# Altium schematic symbol library Libreria esquematico.SchLib: 95 symbols
Pins are listed as number, name and electrical type; pins without a type are passive.

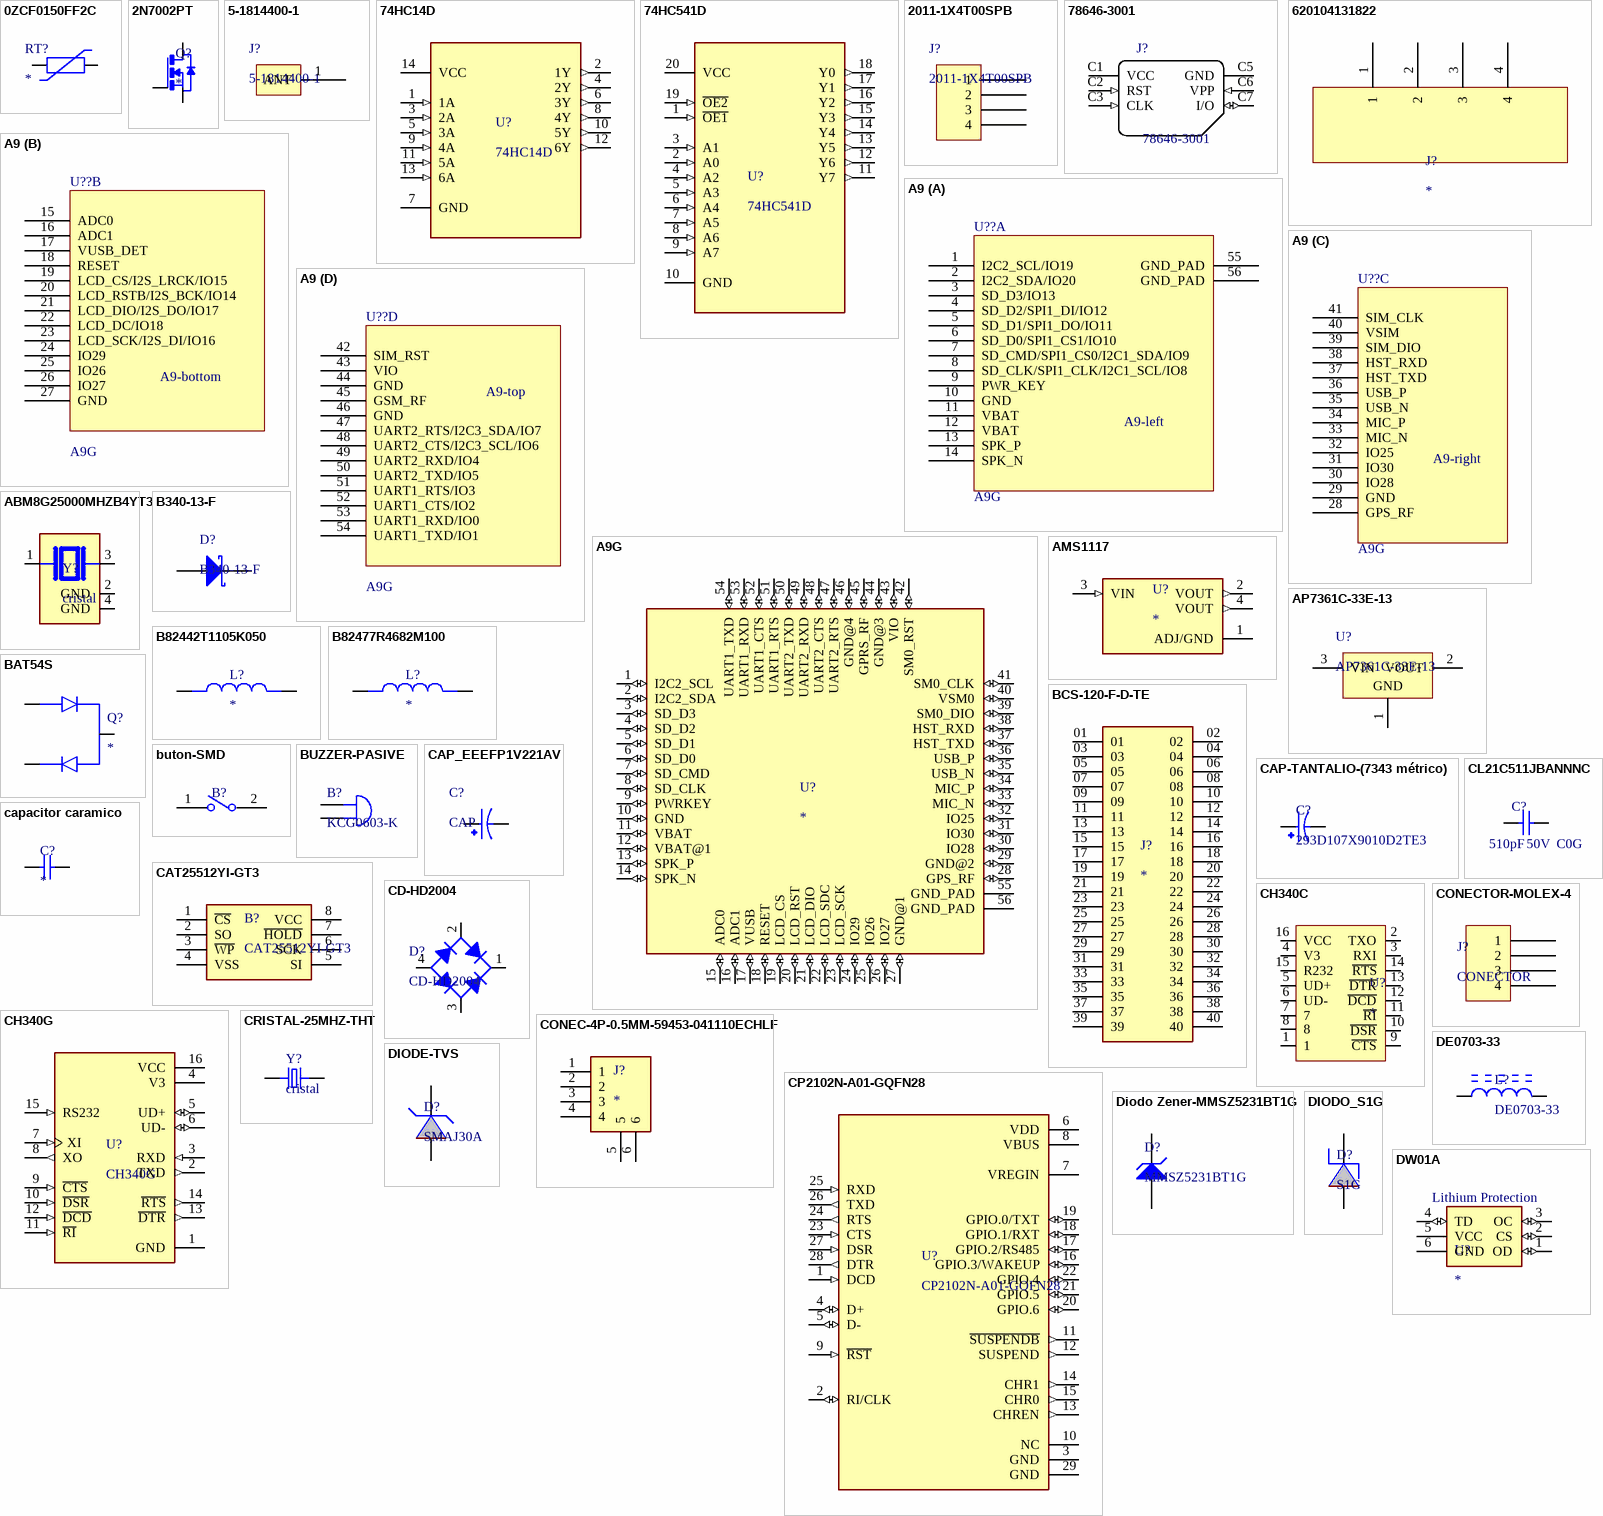
[diagram p0: symbols 0ZCF0150FF2C to DW01A]

## 0ZCF0150FF2C
designator RT?
PPTC (Polyswitch); Manufacturer_Part_Number: 0ZCF0150FF2C; Vendor: Belfuse; Type: Type; RefDes: RefDes
footprint 0ZCF
pins: 1, 2

## 2N7002PT
designator Q?
N-Channel 60 V 310mA (Ta) 250mW (Ta) Surface Mount SC-75; MP: 2N7002PT; package: SOT-416 NXP USA Inc.
footprint SOT-416
pins: 1 D, 2 G, 3 S

## 5-1814400-1
designator J?
SMA Connector Jack, Female Socket 50 Ohm Through Hole, Right Angle Solder; Vendor: Tyco Electronics; Manufacturer_Part_Number: 5-1814400-1
footprint 5-1814400-1
pins: 1 ANT

## 74HC14D
designator U?
Inverter IC 6 Channel Schmitt Trigger 14-SOIC; MF: Toshiba; MP: 74HC14D
footprint SOIC127P600X175-14N
pins: 1 1A (in), 2 1Y (out), 3 2A (in), 4 2Y (out), 5 3A (in), 6 3Y (out), 7 GND, 8 4Y (out), 9 4A (in), 10 5Y (out), 11 5A (in), 12 6Y (out), 13 6A (in), 14 VCC (power)

## 74HC541D
designator U?
Buffer, Non-Inverting 1 Element 8 Bit per Element 3-State Output 20-SOIC; MF: Toshiba Semiconductor; MP: 74HC541D
footprint HRS_U.FL-R-SMT(01)
pins: 1 ~{OE1} (in), 2 A0 (in), 3 A1 (in), 4 A2 (in), 5 A3 (in), 6 A4 (in), 7 A5 (in), 8 A6 (in), 9 A7 (in), 10 GND, 11 Y7 (out), 12 Y6 (out), 13 Y5 (out), 14 Y4 (out), 15 Y3 (out), 16 Y2 (out), 17 Y1 (out), 18 Y0 (out), 19 ~{OE2} (in), 20 VCC (power)

## 2011-1X4T00SPB
designator J?
Header 0.1" 4 pos
footprint VREG_LM2596S-12/NOPB
pins: 1, 2, 3, 4

## 78646-3001
designator J?
Conn Micro SIM Card SKT 6 POS 2.54mm Solder RA SMD 0.5A/Contact Embossed T/R; MF: Molex; Price: 0.58 USD; Availability: Good; MP: 78646-3001; Package: None; Value: *
footprint MICRO-SIM_CARD_HOLDER_78646-3001(Primary)
pins: C1 VCC (power), C2 RST (in), C3 CLK (in), C5 GND (power), C6 VPP (in), C7 I/O (io)

## 620104131822
designator J?
Connector Header Surface Mount, Right Angle 4 position 0.079" (2.00mm); MP: WurthElektronik
footprint 620104131822
pins: 1, 2, 3, 4

## A9
designator U??, comment A9G
Cellular, Navigation Beidou, GNSS, GPRS, GPS, GSM Transceiver Module 800MHz, 900MHz, 1.8GHz, 1.9GHz Antenna Not Included Surface Mount; Model Name: A9G; Package: SMD54; Size: 19.2*18.8*2.7(±0.2)mm
part A pins: 1 I2C2_SCL/IO19, 2 I2C2_SDA/IO20, 3 SD_D3/IO13, 4 SD_D2/SPI1_DI/IO12, 5 SD_D1/SPI1_DO/IO11, 6 SD_D0/SPI1_CS1/IO10, 7 SD_CMD/SPI1_CS0/I2C1_SDA/IO9, 8 SD_CLK/SPI1_CLK/I2C1_SCL/IO8, 9 PWR_KEY, 10 GND, 11 VBAT, 12 VBAT, 13 SPK_P, 14 SPK_N, 55 GND_PAD, 56 GND_PAD
part B pins: 15 ADC0, 16 ADC1, 17 VUSB_DET, 18 RESET, 19 LCD_CS/I2S_LRCK/IO15, 20 LCD_RSTB/I2S_BCK/IO14, 21 LCD_DIO/I2S_DO/IO17, 22 LCD_DC/IO18, 23 LCD_SCK/I2S_DI/IO16, 24 IO29, 25 IO26, 26 IO27, 27 GND
part C pins: 28 GPS_RF, 29 GND, 30 IO28, 31 IO30, 32 IO25, 33 MIC_N, 34 MIC_P, 35 USB_N, 36 USB_P, 37 HST_TXD, 38 HST_RXD, 39 SIM_DIO, 40 VSIM, 41 SIM_CLK
part D pins: 42 SIM_RST, 43 VIO, 44 GND, 45 GSM_RF, 46 GND, 47 UART2_RTS/I2C3_SDA/IO7, 48 UART2_CTS/I2C3_SCL/IO6, 49 UART2_RXD/IO4, 50 UART2_TXD/IO5, 51 UART1_RTS/IO3, 52 UART1_CTS/IO2, 53 UART1_RXD/IO0, 54 UART1_TXD/IO1
part A text: A9-left
part B text: A9-bottom
part C text: A9-right
part D text: A9-top

## A9G
designator U?
Cellular, Navigation Beidou, GNSS, GPRS, GPS, GSM Transceiver Module 800MHz, 900MHz, 1.8GHz, 1.9GHz Antenna Not Included Surface Mount; MF: KEMET; MP: A9G
footprint A9
pins: 1 I2C2_SCL (io), 2 I2C2_SDA (io), 3 SD_D3 (io), 4 SD_D2 (io), 5 SD_D1 (io), 6 SD_D0 (io), 7 SD_CMD (io), 8 SD_CLK (io), 9 PWRKEY (io), 10 GND (io), 11 VBAT (io), 12 VBAT@1 (io), 13 SPK_P (io), 14 SPK_N (io), 15 ADC0 (io), 16 ADC1 (io), 17 VUSB (io), 18 RESET (io), 19 LCD_CS (io), 20 LCD_RST (io), 21 LCD_DIO (io), 22 LCD_SDC (io), 23 LCD_SCK (io), 24 IO29 (io), 25 IO26 (io), 26 IO27 (io), 27 GND@1 (io), 28 GPS_RF (io), 29 GND@2 (io), 30 IO28 (io), 31 IO30 (io), 32 IO25 (io), 33 MIC_N (io), 34 MIC_P (io), 35 USB_N (io), 36 USB_P (io), 37 HST_TXD (io), 38 HST_RXD (io), 39 SM0_DIO (io), 40 VSM0 (io), 41 SM0_CLK (io), 42 SM0_RST (io), 43 VIO (io), 44 GND@3 (io), 45 GPRS_RF (io), 46 GND@4 (io), 47 UART2_RTS (io), 48 UART2_CTS (io), 49 UART2_RXD (io), 50 UART2_TXD (io), 51 UART1_RTS (io), 52 UART1_CTS (io), 53 UART1_RXD (io), 54 UART1_TXD (io), 55 GND_PAD, 56 GND_PAD

## ABM8G25000MHZB4YT3
designator Y?, comment cristal
CRISTAL, SELLO DE VIDRIO CERAMICO, 25.000MHZ, 10PF, 30PPM @ 25C, 3; MF: Abracon; MP: ABM8G25000MHZB4YT3
footprint XTAL_ABM8G25000MHZB4YT3
pins: 1, 2 GND (power), 3 2, 4 GND (power)

## AMS1117
designator U?
1A LOW DROPOUT VOLTAGE REGULATOR SOT-223; MP: AMS1117; MF: SOT-223
footprint SOT229P700X180-4N
pins: 1 ADJ/GND (power), 2 VOUT (out), 3 VIN (in), 4 VOUT (out)

## AP7361C-33E-13
designator U?
Linear Voltage Regulator IC Positive Fixed 1 Output 3.3V 1A SOT-223; Voltage Dropout (Max): 0.36V @ 1A (Typ); PackageReference: SOT-223
footprint SOT-223_M (SOT223, 4-Leads, Body 6.5x3.5mm, Pitch 2.3mm, Lead Span 7mm, IPC Low Density)
pins: 1 GND (power), 2 VOUT (power), 3 VIN (power)

## B340-13-F
designator D?
Diode Schottky 40V 3A Surface Mount SMC
footprint B340 (Molded Diode, 2-Leads, Body 4.60x2.92mm)
pins: 1 A, 2 K

## B82442T1105K050
designator L?
INDUCTOR, 2220A, 1000UH, 0.246A, 10%; Inductance:1mH; Inductance Tolerance:Â± 10%; DC Resistance Max:9.5ohm; DC Current Rating:150mA; Series:SIMID; Core Material:Ferrite; Inductor Case Style:2220; No. of Pins:2; Core Material:Ferrite; DC Current Max:150mA; Inductor Type:Laser Cut; Package / Case:2220; Q @ Vr F:20; Q Factor @ Frequency:20 @ 252kHz; Resistance:9.5ohm; Resonant Frequency:1.8MHz
footprint INDM5650X530N
pins: 1, 2

## B82477R4682M100
designator L?
INDUCTOR, POWER, 6.8UH, 10.5A, 20%; Product Range:EPCOS - B82477R4 Series; Inductance:6.8µH; Inductance Tolerance:± 20%; Inductor
footprint IND_B82477R4682M100
pins: 1, 2

## BAT54S
designator Q?
SOT-23 30V 0.2A Diodes Rectifi
footprint SOT95P240X120-3N
pins: 1, 2, 3

## BCS-120-F-D-TE
designator J?
CONNECTOR, RECEPTACLE, 40 CONTACTS, 2 ROWS, THROUGH HOLE, 2.54 MM; Connector Systems:Board-to-Board; Pitch Spacing:2.54mm; No. of Rows:2Rows; No. of Contacts:40Contacts; Connector Mounting:Through Hole Mount; Gender:Receptacle RoHS Compliant: Yes
footprint SAMTEC_BCS-120-F-D-TE
pins: 01, 02, 03, 04, 05, 06, 07, 08, 09, 10, 11, 12, 13, 14, 15, 16, 17, 18, 19, 20, 21, 22, 23, 24, 25, 26, 27, 28, 29, 30, 31, 32, 33, 34, 35, 36, 37, 38, 39, 40

## buton-SMD
designator B?  (value not drawn)
buton-SMD
footprint SW_147873-2
pins: 1, 2

## BUZZER-PASIVE
designator B?, comment KCG0603-K
Magnetic Transducer Passive Buzzer [Kingstate], Pin Type, Dimensions(mm): 6.60*3.50, Voltage: 2.0~5.0, Max current consumption(mA): Max. 80, Coil resistance(Ω): 16.0±3.0, SPL(dB): Min. 75dB(Typical 80)@10cm, Frequency(KHz): 3.00.
footprint KCG1206-DSF
pins: 1, 2

## CAP-TANTALIO-(7343 métrico)
designator C?, comment 293D107X9010D2TE3
Capacitores de tantalio moldeado de 100 µF 10 V 2917 (7343 métrico) 600 mOhm; marca: Vishay Sprague
footprint CAP-TANTALIO-PM7343X310N (Capacitores de tantalio moldeado de 100 µF 10 V 2917 (7343 métrico) 600 mOhm)
pins: 1, 2

## CAP_EEEFP1V221AV
designator C?, comment CAP
CAP ALUM; max volt: 50V
footprint CAP_EEEFP1V221AV - duplicate
pins: 1, 2

## capacitor caramico
designator C?
capacitor ceramico 0805
footprint C_0805-3D (Chip Capacitor, 2-Leads, Body 2.00x1.25mm)
pins: 1, 2

## CAT25512YI-GT3
designator B?
EEPROM 512KB SPI SER CMOS EEPROM
footprint SOP65P640X120-8N
pins: 1 ~{CS}, 2 SO, 3 ~{WP}, 4 VSS, 5 SI, 6 SCK, 7 ~{HOLD}, 8 VCC

## CD-HD2004
designator D?
Bridge Rectifier Single Phase Schottky 40V Surface Mount; Maximum Average Forward Rectified Current: 2A; Maximum Repetitive Peak Reverse Voltage: 40V
footprint CD-HD2004
pins: 1 K, 2 C1, 3 C2, 4 A

## CH340C
designator U?
CH340C USB/UART; MF: Olimex; MP: CH340C
footprint SO016
pins: 1 (io), 2 TXO (io), 3 RXI (io), 4 V3 (io), 5 UD+ (io), 6 UD- (io), 7, 8, 9 ~{CTS} (io), 10 ~{DSR} (io), 11 ~{RI} (io), 12 ~{DCD} (io), 13 ~{DTR} (io), 14 ~{RTS} (io), 15 R232 (io), 16 VCC (io)

## CH340G
designator U?
USB Interface Integrated Circuit; MF: WCH; MP: CH340G
footprint SOIC127P600X180-16N
pins: 1 GND (power), 2 TXD (out), 3 RXD (in), 4 V3 (power), 5 UD+ (io), 6 UD- (io), 7 XI (in), 8 XO (out), 9 ~{CTS} (in), 10 ~{DSR} (in), 11 ~{RI} (in), 12 ~{DCD} (in), 13 ~{DTR} (out), 14 ~{RTS} (out), 15 RS232 (in), 16 VCC (power)

## CL21C511JBANNNC
designator C?  value 510pF  Voltage Rating DC: 50V  Temperature Coefficient: C0G
Capacitor
footprint C_0805_3D (Chip capacitor)
pins: 1, 2

## CONEC-4P-0.5MM-59453-041110ECHLF
designator J?
0.50mm Flex Connectors, FPC/FFC Side Entry ZIF Connector, Surface Mount, 4 Positions, Bottom Contact, 0.50mm (0.020in) Pitch
footprint AMPHENOL_59453-041110ECHLF
pins: 1, 2, 3, 4, 5, 6

## CONECTOR-MOLEX-4
designator J?, comment CONECTOR
CONECTOR MOLEX 4 0.5mm pitch
footprint Pin-Header-MOLEX-4 (2.54 mm pitch male header pin)
pins: 1, 2, 3, 4

## CP2102N-A01-GQFN28
designator U?
USB Bridge, USB to UART USB 2.0 UART Interface 28-QFN (5x5)
footprint QFN-28 (CP2102N-A01-GQFN28)
pins: 1 DCD (in), 2 RI/CLK (io), 3 GND (power), 4 D+ (io), 5 D- (io), 6 VDD (power), 7 VREGIN (power), 8 VBUS (power), 9 ~{RST} (in), 10 NC, 11 ~{SUSPENDB} (out), 12 SUSPEND (out), 13 CHREN (out), 14 CHR1 (out), 15 CHR0 (out), 16 GPIO.3/WAKEUP (io), 17 GPIO.2/RS485 (io), 18 GPIO.1/RXT (io), 19 GPIO.0/TXT (io), 20 GPIO.6 (io), 21 GPIO.5 (io), 22 GPIO.4 (io), 23 CTS (in), 24 RTS (out), 25 RXD (in), 26 TXD (out), 27 DSR (in), 28 DTR (out), 29 GND (power)

## CRISTAL-25MHZ-THT
designator Y?, comment cristal
25 MHz Â±30ppm Cristal 18pF 30 ohmios HC-49/US
footprint XTAL_ECS-250-18-4X-F
pins: 1, 2

## DE0703-33
designator L?
Inductor: alambre; SMD; 33uH; 910mA; 240 mΩ; 7,3x7,3x3,2 mm; ±20%
footprint DE0703-33 (Inductor: alambre; SMD; 33uH; 910mA; 240 mO; 7,3x7,3x3,2 mm; ±20%)
pins: 1, 2

## DIODE-TVS
designator D?, comment SMAJ30A
diodo TVS Unidirectional TVS
footprint D_SMA
pins: 1 A, 2 K

## Diodo Zener-MMSZ5231BT1G
designator D?, comment MMSZ5231BT1G
Diodo Zener 5,1 V 500 mW ±5 % Montaje en superficie SOD-123
footprint SOD_123
pins: 1, 2

## DIODO_S1G
designator D?, comment S1G
Rectificador de recuperación estándar, 1 A, 400 V
footprint DO214AC
pins: 1 A, 2 K

## DW01A
designator U?
One Cell Lithium-ion/Polymer Battery Protection IC
footprint SOT-23-6 (Pinza 11,4V 7A (8/20µs) Ipp Tvs Diodo Montaje en superficie)
pins: 1 OD (io), 2 CS (io), 3 OC (io), 4 TD (io), 5 VCC (power), 6 GND (power)
text: Lithium Protection

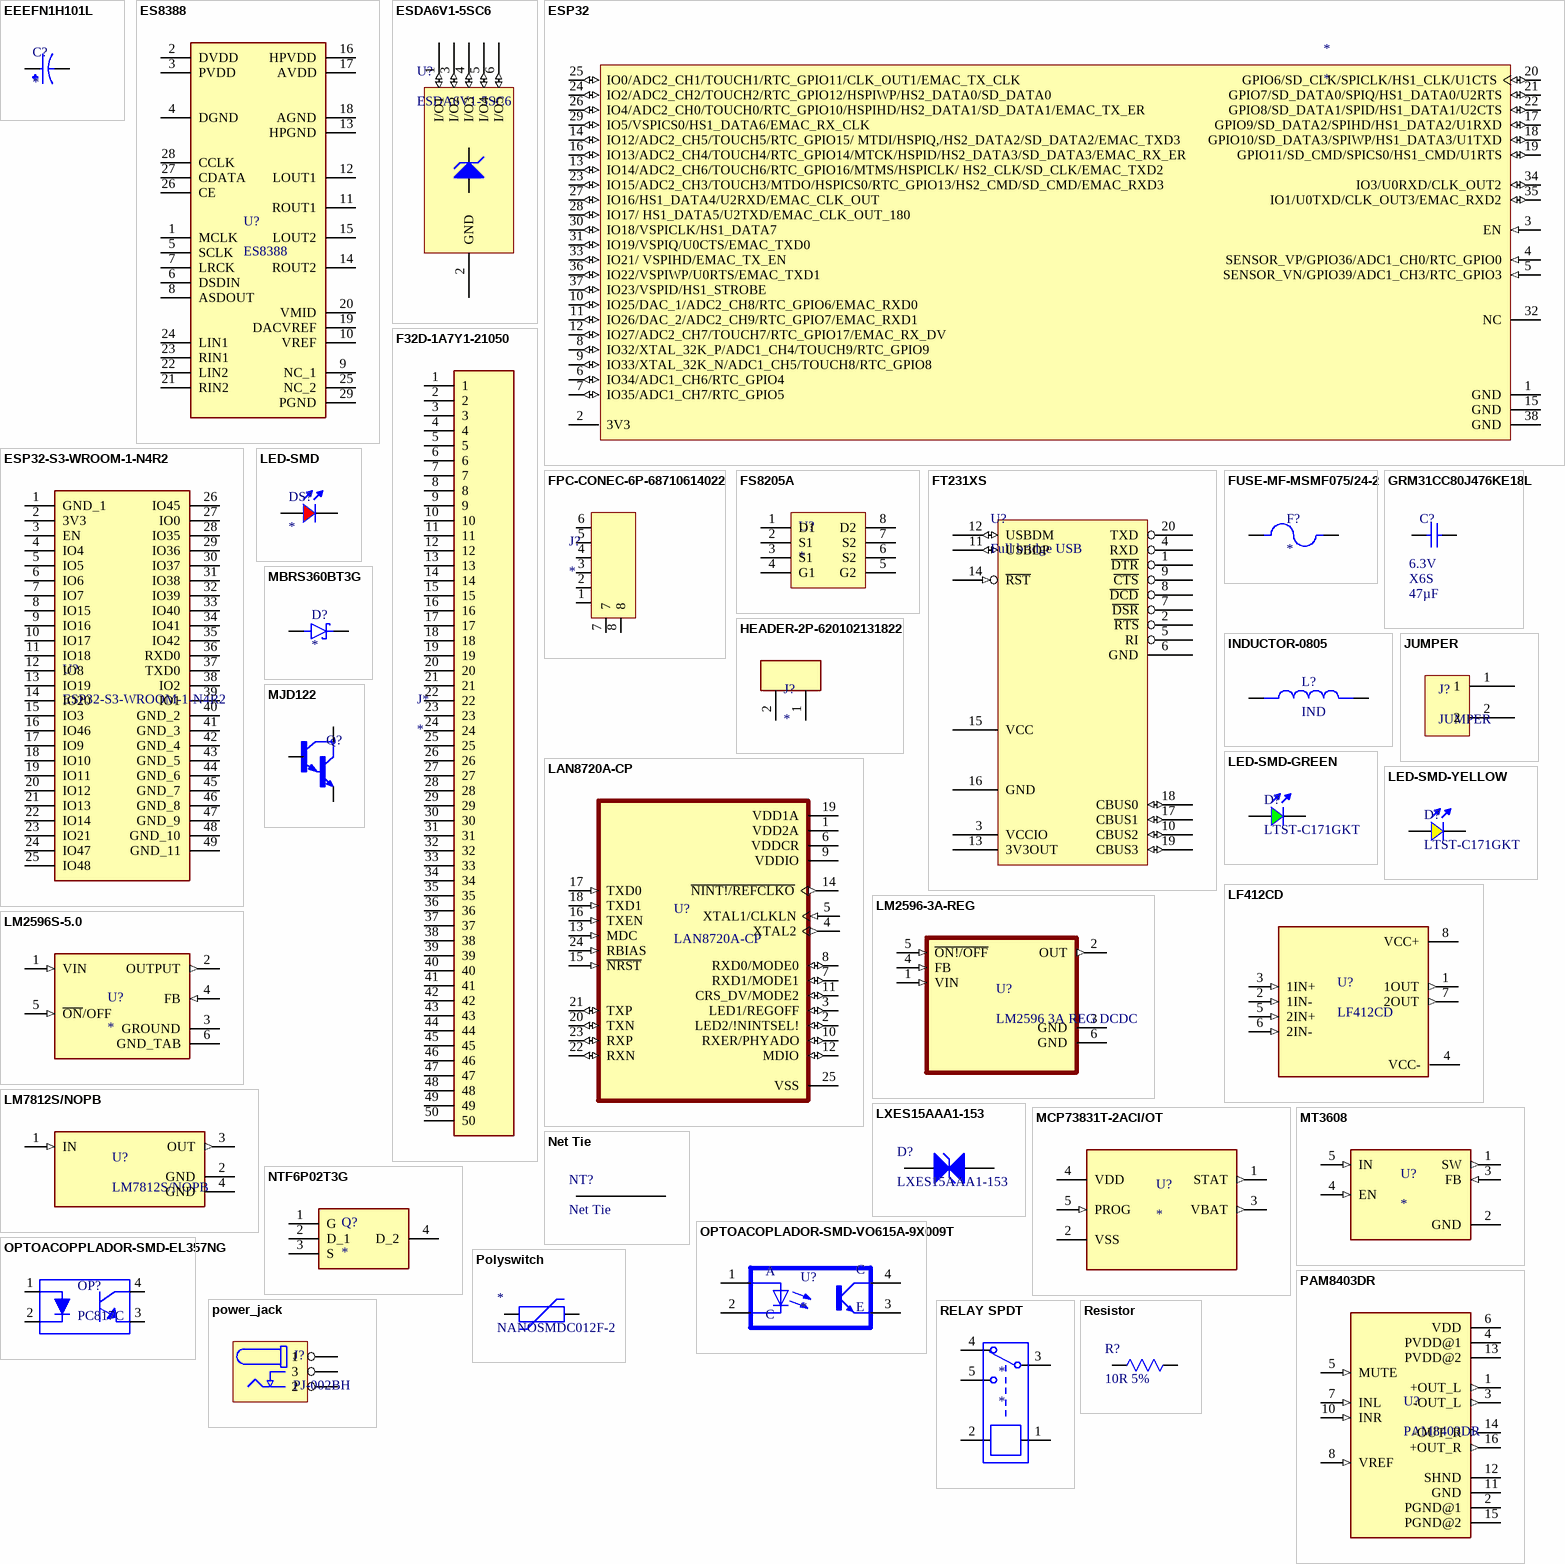
[diagram p1: symbols EEEFN1H101L to Resistor]

## EEEFN1H101L
designator C?
CAP ALUM 100UF 20% 50V SMD; MP: EEE-FN1H101L; MF: Panasonic Electronic Components; Value: *; SnapEDA_Link: https://www.snapeda.com/parts/EEE-FN1H101L/Panasonic/view-part/6178263/?ref=snap; Availability: In Stock; Package: RADIAL-2 Panasonic; Purchase-URL: https://pricing.snapeda.com/search/part/EEE-FN1H101L/?ref=eda; Price: None; Check_prices: https://www.snapeda.com/parts/EEE-FN1H101L/Panasonic/view-part/6178263/?ref=eda
footprint CAP_EEEFN1H101L
pins: 1, 2

## ES8388
designator U?
Low Power Stereo Audio CODEC With Headphone Amplifier; MP: Everest; MF: ES8388
footprint QFN45P400X400X90-29N-D
pins: 1 MCLK, 2 DVDD, 3 PVDD, 4 DGND, 5 SCLK, 6 DSDIN, 7 LRCK, 8 ASDOUT, 9 NC_1, 10 VREF, 11 ROUT1, 12 LOUT1, 13 HPGND, 14 ROUT2, 15 LOUT2, 16 HPVDD, 17 AVDD, 18 AGND, 19 DACVREF, 20 VMID, 21 RIN2, 22 LIN2, 23 RIN1, 24 LIN1, 25 NC_2, 26 CE, 27 CDATA, 28 CCLK, 29 PGND

## ESDA6V1-5SC6
designator U?
Array for ESD protection; Vendor: ST Microelectronics; Manufacturer_Part_Number: ESDA6V1-5SC6; Type: Type; RefDes: RefDes
footprint SOT-23-6 (Pinza 11,4V 7A (8/20µs) Ipp Tvs Diodo Montaje en superficie)
pins: 1 I/O1 (io), 2 GND (power), 3 I/O2 (io), 4 I/O3 (io), 5 I/O4 (io), 6 I/O5 (io)

## ESP32
designator *
footprint MODULE_ESP32-WROOM-32
pins: 1 GND (power) "Ground", 2 3V3 (power) "Power supply.", 3 EN (in) "Chip-enable signal. Active high.", 4 SENSOR_VP/GPIO36/ADC1_CH0/RTC_GPIO0 (in) "GPIO36, SENSOR_VP, ADC_H, ADC1_CH0, RTC_GPIO0", 5 SENSOR_VN/GPIO39/ADC1_CH3/RTC_GPIO3 (in) "GPIO39, SENSOR_VN, ADC1_CH3, ADC_H, RTC_GPIO3", 6 IO34/ADC1_CH6/RTC_GPIO4 (io) "GPIO34, ADC1_CH6, RTC_GPIO4", 7 IO35/ADC1_CH7/RTC_GPIO5 (io) "GPIO35, ADC1_CH7, RTC_GPIO5", 8 IO32/XTAL_32K_P/ADC1_CH4/TOUCH9/RTC_GPIO9 (io) "GPIO32, XTAL_32K_P (32.768 kHz crystal oscillator input), ADC1_CH4, TOUCH9, RTC_GPIO9", 9 IO33/XTAL_32K_N/ADC1_CH5/TOUCH8/RTC_GPIO8 (io) "GPIO33, XTAL_32K_N (32.768 kHz crystal oscillator output), ADC1_CH5, TOUCH8, RTC_GPIO8", 10 IO25/DAC_1/ADC2_CH8/RTC_GPIO6/EMAC_RXD0 (io) "GPIO25, DAC_1, ADC2_CH8, RTC_GPIO6, EMAC_RXD0", 11 IO26/DAC_2/ADC2_CH9/RTC_GPIO7/EMAC_RXD1 (io) "GPIO26, DAC_2, ADC2_CH9, RTC_GPIO7, EMAC_RXD1", 12 IO27/ADC2_CH7/TOUCH7/RTC_GPIO17/EMAC_RX_DV (io) "GPIO27, ADC2_CH7, TOUCH7, RTC_GPIO17, EMAC_RX_DV", 13 IO14/ADC2_CH6/TOUCH6/RTC_GPIO16/MTMS/HSPICLK/ HS2_CLK/SD_CLK/EMAC_TXD2 (io) "GPIO14, ADC2_CH6, TOUCH6, RTC_GPIO16, MTMS, HSPICLK, HS2_CLK, SD_CLK, EMAC_TXD2", 14 IO12/ADC2_CH5/TOUCH5/RTC_GPIO15/ MTDI/HSPIQ,/HS2_DATA2/SD_DATA2/EMAC_TXD3 (io) "GPIO12, ADC2_CH5, TOUCH5, RTC_GPIO15, MTDI, HSPIQ, HS2_DATA2, SD_DATA2, EMAC_TXD3", 15 GND (power) "Ground", 16 IO13/ADC2_CH4/TOUCH4/RTC_GPIO14/MTCK/HSPID/HS2_DATA3/SD_DATA3/EMAC_RX_ER (io) "GPIO13, ADC2_CH4, TOUCH4, RTC_GPIO14, MTCK, HSPID, HS2_DATA3, SD_DATA3, EMAC_RX_ER", 17 GPIO9/SD_DATA2/SPIHD/HS1_DATA2/U1RXD (io) "GPIO9, SD_DATA2, SPIHD, HS1_DATA2, U1RXD", 18 GPIO10/SD_DATA3/SPIWP/HS1_DATA3/U1TXD (io) "GPIO10, SD_DATA3, SPIWP, HS1_DATA3, U1TXD", 19 GPIO11/SD_CMD/SPICS0/HS1_CMD/U1RTS (io) "GPIO11, SD_CMD, SPICS0, HS1_CMD, U1RTS", 20 GPIO6/SD_CLK/SPICLK/HS1_CLK/U1CTS (io) "GPIO6, SD_CLK, SPICLK, HS1_CLK, U1CTS", 21 GPIO7/SD_DATA0/SPIQ/HS1_DATA0/U2RTS (io) "GPIO7, SD_DATA0, SPIQ, HS1_DATA0, U2RTS", 22 GPIO8/SD_DATA1/SPID/HS1_DATA1/U2CTS (io) "GPIO8, SD_DATA1, SPID, HS1_DATA1, U2CTS", 23 IO15/ADC2_CH3/TOUCH3/MTDO/HSPICS0/RTC_GPIO13/HS2_CMD/SD_CMD/EMAC_RXD3 (io) "GPIO15, ADC2_CH3, TOUCH3, MTDO, HSPICS0, RTC_GPIO13, HS2_CMD, SD_CMD, EMAC_RXD3", 24 IO2/ADC2_CH2/TOUCH2/RTC_GPIO12/HSPIWP/HS2_DATA0/SD_DATA0 (io) "GPIO2, ADC2_CH2, TOUCH2, RTC_GPIO12, HSPIWP, HS2_DATA0, SD_DATA0", 25 IO0/ADC2_CH1/TOUCH1/RTC_GPIO11/CLK_OUT1/EMAC_TX_CLK (io) "GPIO0, ADC2_CH1, TOUCH1, RTC_GPIO11, CLK_OUT1, EMAC_TX_CLK", 26 IO4/ADC2_CH0/TOUCH0/RTC_GPIO10/HSPIHD/HS2_DATA1/SD_DATA1/EMAC_TX_ER (io) "GPIO4, ADC2_CH0, TOUCH0, RTC_GPIO10, HSPIHD, HS2_DATA1, SD_DATA1, EMAC_TX_ER", 27 IO16/HS1_DATA4/U2RXD/EMAC_CLK_OUT (io) "GPIO16, HS1_DATA4, U2RXD, EMAC_CLK_OUT", 28 IO17/ HS1_DATA5/U2TXD/EMAC_CLK_OUT_180 (io) "GPIO17, HS1_DATA5, U2TXD, EMAC_CLK_OUT_180", 29 IO5/VSPICS0/HS1_DATA6/EMAC_RX_CLK (io) "GPIO5, VSPICS0, HS1_DATA6, EMAC_RX_CLK", 30 IO18/VSPICLK/HS1_DATA7 (io) "GPIO18, VSPICLK, HS1_DATA7", 31 IO19/VSPIQ/U0CTS/EMAC_TXD0 (io) "GPIO19, VSPIQ, U0CTS, EMAC_TXD0", 32 NC "Not connected", 33 IO21/ VSPIHD/EMAC_TX_EN (io) "GPIO21, VSPIHD, EMAC_TX_EN", 34 IO3/U0RXD/CLK_OUT2 (io) "GPIO3, U0RXD, CLK_OUT2", 35 IO1/U0TXD/CLK_OUT3/EMAC_RXD2 (io) "GPIO1, U0TXD, CLK_OUT3, EMAC_RXD2", 36 IO22/VSPIWP/U0RTS/EMAC_TXD1 (io) "GPIO22, VSPIWP, U0RTS, EMAC_TXD1", 37 IO23/VSPID/HS1_STROBE (io) "GPIO23, VSPID, HS1_STROBE", 38 GND (power) "Ground"

## ESP32-S3-WROOM-1-N4R2
designator U?
Bluetooth, WiFi 802.11b/g/n, Bluetooth v5.0 Transceiver Module 2.4GHz PCB Trace Surface Mount
footprint ESP32S3WROOM1N4R2
pins: 1 GND_1, 2 3V3, 3 EN, 4 IO4, 5 IO5, 6 IO6, 7 IO7, 8 IO15, 9 IO16, 10 IO17, 11 IO18, 12 IO8, 13 IO19, 14 IO20, 15 IO3, 16 IO46, 17 IO9, 18 IO10, 19 IO11, 20 IO12, 21 IO13, 22 IO14, 23 IO21, 24 IO47, 25 IO48, 26 IO45, 27 IO0, 28 IO35, 29 IO36, 30 IO37, 31 IO38, 32 IO39, 33 IO40, 34 IO41, 35 IO42, 36 RXD0, 37 TXD0, 38 IO2, 39 IO1, 40 GND_2, 41 GND_3, 42 GND_4, 43 GND_5, 44 GND_6, 45 GND_7, 46 GND_8, 47 GND_9, 48 GND_10, 49 GND_11

## F32D-1A7Y1-21050
designator J*
Flex Connector, 0.50mm Pitch, Height 2.00mm, Right angle, Flip type, ZIF, Double contact, point 50 position , Without MYLAR
footprint AMPHENOL_F32D-1A7Y1-21050
pins: 1, 2, 3, 4, 5, 6, 7, 8, 9, 10, 11, 12, 13, 14, 15, 16, 17, 18, 19, 20, 21, 22, 23, 24, 25, 26, 27, 28, 29, 30, 31, 32, 33, 34, 35, 36, 37, 38, 39, 40, 41, 42, 43, 44, 45, 46, 47, 48, 49, 50

## FPC-CONEC-6P-68710614022
designator J?
Position FPC Connector Contacts, Top 0.020" (0.50mm) Surface Mount, Right Angle
footprint 68710614022
pins: 1 6, 2 5, 3 4, 4 3, 5 2, 6 1, 7, 8

## FS8205A
designator U?
FS8205A
footprint SOP65P640X120-8N
pins: 1 D1, 2 S1, 3 S1, 4 G1, 5 G2, 6 S2, 7 S2, 8 D2

## FT231XS
designator U?, comment Full bridge USB
footprint SSOP_20
pins: 1 ~{DTR}, 2 ~{RTS}, 3 VCCIO, 4 RXD, 5 RI, 6 GND, 7 ~{DSR}, 8 ~{DCD}, 9 ~{CTS}, 10 CBUS2 (io), 11 USBDP (io), 12 USBDM (io), 13 3V3OUT, 14 ~{RST} (in), 15 VCC, 16 GND, 17 CBUS1 (io), 18 CBUS0 (io), 19 CBUS3 (io), 20 TXD

## FUSE-MF-MSMF075/24-2
designator F?
Polymeric PTC Resettable Fuse 24V 750 mA Ih Surface Mount 1812 (4532 Metric), Concave
footprint FUSER_MF-MSMF075/24-2
pins: 1, 2

## GRM31CC80J476KE18L
designator C?  value 47µF  Voltage Rating DC: 6.3V  Temperature Coefficient: X6S
Capacitor
footprint C_1206_3D
pins: 1, 2

## HEADER-2P-620102131822
designator J?
Connector Header Surface Mount, Right Angle 2 position 0.079 _2.00mm_
footprint 620102131822
pins: 1 2, 2 1

## INDUCTOR-0805
designator L?, comment IND
inductor 0805
footprint IND_CPI0805G1R5R-10
pins: 1, 2

## JUMPER
designator J?
JUMPER: JUMPER
footprint JUMPER (2.54 mm pitch male header pin)
pins: 1, 2

## LAN8720A-CP
designator U?
footprint QFN-24-50P400X400X90-25N (VQFN de 24 pines)
pins: 1 VDD2A (power), 2 LED2/!NINTSEL! (io), 3 LED1/REGOFF (io), 4 XTAL2 (out), 5 XTAL1/CLKLN (in), 6 VDDCR (power), 7 RXD1/MODE1 (io), 8 RXD0/MODE0 (io), 9 VDDIO (power), 10 RXER/PHYADO (io), 11 CRS_DV/MODE2 (io), 12 MDIO (io), 13 MDC (in), 14 ~{NINT!/REFCLKO} (out), 15 ~{NRST} (in), 16 TXEN (in), 17 TXD0 (in), 18 TXD1 (in), 19 VDD1A (power), 20 TXN (io), 21 TXP (io), 22 RXN (io), 23 RXP (io), 24 RBIAS (in), 25 VSS (power)

## LED-SMD
designator DS?
led 0805 red
footprint D_0805-RED (diodo red 0805 smd)
pins: 1, 2

## LED-SMD-GREEN
designator D?, comment LTST-C171GKT
LED-SMD-GREEN
footprint D_0805-GREEN (diodo GREEN 0805 smd)
pins: 1, 2

## LED-SMD-YELLOW
designator D?, comment LTST-C171GKT
LED-SMD-YELLOW
footprint D_0805 - YELOW (diodo led 0805)
pins: 1, 2

## LF412CD
designator U?
Doble, 36 V, 3 MHz, alta velocidad de respuesta (13 V/µs), voltaje de compensación de 3 mV, amplificador operacional de entrada JFET
footprint SOIC127P599X175-8N
pins: 1 1OUT (out), 2 1IN- (in), 3 1IN+ (in), 4 VCC- (power), 5 2IN+ (in), 6 2IN- (in), 7 2OUT (out), 8 VCC+ (power)

## LM2596-3A-REG
designator U?, comment LM2596 3A REG DCDC
package: D2PAK
footprint VREG_LM2596S-12/NOPB
pins: 1 VIN (in), 2 OUT (out), 3 GND (power), 4 FB (in), 5 ~{ON!/OFF} (in), 6 GND (power)

## LM2596S-5.0
designator U?
SIMPLE SWITCHER&reg; 4.5V to 40V, 3A Low Component Count Step-Down Regulator
footprint TO170P1524X483-6N
pins: 1 VIN (in), 2 OUTPUT (out), 3 GROUND (power), 4 FB (in), 5 ~{ON}/OFF (in), 6 GND_TAB (power)

## LM7812S/NOPB
designator U?
1.5-A, 30-V, linear voltage regulator 3-DDPAK/TO-263 0 to 125; MP: LM7812S/NOPB; pakage: 3-DDPAK/TO-263
footprint TO254P1524X483-4N
pins: 1 IN (in), 2 GND (power), 3 OUT (out), 4 GND (power)

## LXES15AAA1-153
designator D?
TVS DIODE 4VWM 0402
footprint RESC0402(1005)_L
pins: 1, 2

## MBRS360BT3G
designator D?
Diode Schottky 60V 3A Surface Mount SMB
footprint DIOM5436X247N
pins: A, C K

## MCP73831T-2ACI/OT
designator U?
Charger IC Lithium Ion/Polymer SOT-23-5; MF: Microchip; MP: MCP73831T-2ACI/OT; package: SOT-23 Microchip
footprint SOT95P280X145-5N
pins: 1 STAT (out), 2 VSS (power), 3 VBAT (out), 4 VDD (power), 5 PROG (in)

## MJD122
designator Q?  (value not drawn)
Bipolar _BJT_ Transistor NPN - Darlington 100V 8A 4MHz 1.75W Surface Mount DPAK; MF: ON Semiconductor
footprint DPAK
pins: 1 B, 3 E, 4 C

## MT3608
designator U?
High Efficiency 1.2MHz 2A Step Up Converter; MF: Aerosemi Technology Co., Ltd; MB: MT3608
footprint SOT95P280X145-6N
pins: 1 SW (out), 2 GND (power), 3 FB (in), 4 EN (in), 5 IN (in)

## Net Tie
designator NT?  (net tie, no BOM)
Se utiliza para unir dos nets
pins: 1, 2

## NTF6P02T3G
designator Q?
10A, 20V, 0.05ohm, P-CHANNEL, Si, POWER, MOSFET, TO-261AA, CASE 318E-04, TO-261, 4 PIN
footprint SOT230P700X175-4N
pins: 1 G, 2 D_1, 3 S, 4 D_2

## OPTOACOPLADOR-SMD-VO615A-9X009T
designator U?
optoacoplador SMD VO615A-9X009T; MP: VO615A-9X009T
footprint SOIC254P1030X390-4N
pins: 1 A, 2 C, 3 E, 4 CO

## OPTOACOPPLADOR-SMD-EL357NG
designator OP?, comment PC817C
Optoisolator Transistor Output 5000Vrms 1 Channel 4-DIP
footprint DIOPTO-THT-P762W50P254L650H458Q4B (optoacoplador)
pins: 1, 2, 3, 4

## PAM8403DR
designator U?
Amplifier IC 2-Channel _Stereo_ Class D 16-SOP; MF: Diodes Incorporated; MP: PAM8403DR
footprint SOIC127P605X150-16N
pins: 1 +OUT_L (out), 2 PGND@1 (power), 3 -OUT_L (out), 4 PVDD@1 (power), 5 MUTE (in), 6 VDD (power), 7 INL (in), 8 VREF (in), 10 INR (in), 11 GND (power), 12 SHND (power), 13 PVDD@2 (power), 14 -OUT_R (out), 15 PGND@2 (power), 16 +OUT_R (out)

## Polyswitch
designator *, comment NANOSMDC012F-2
NANOSMDC012F-2 poliswitch
footprint NANOSMDC
pins: 1, 2

## power_jack
designator J?, comment PJ-002BH
PJ-002BH conector
footprint PJ002B
pins: 1, 2, 3

## RELAY SPDT
designator *
pins: 1, 2, 3, 4, 5

## Resistor
designator R?, comment 10R 5%
footprint R_0805 (Chip Resistor 0805)
pins: 1, 2

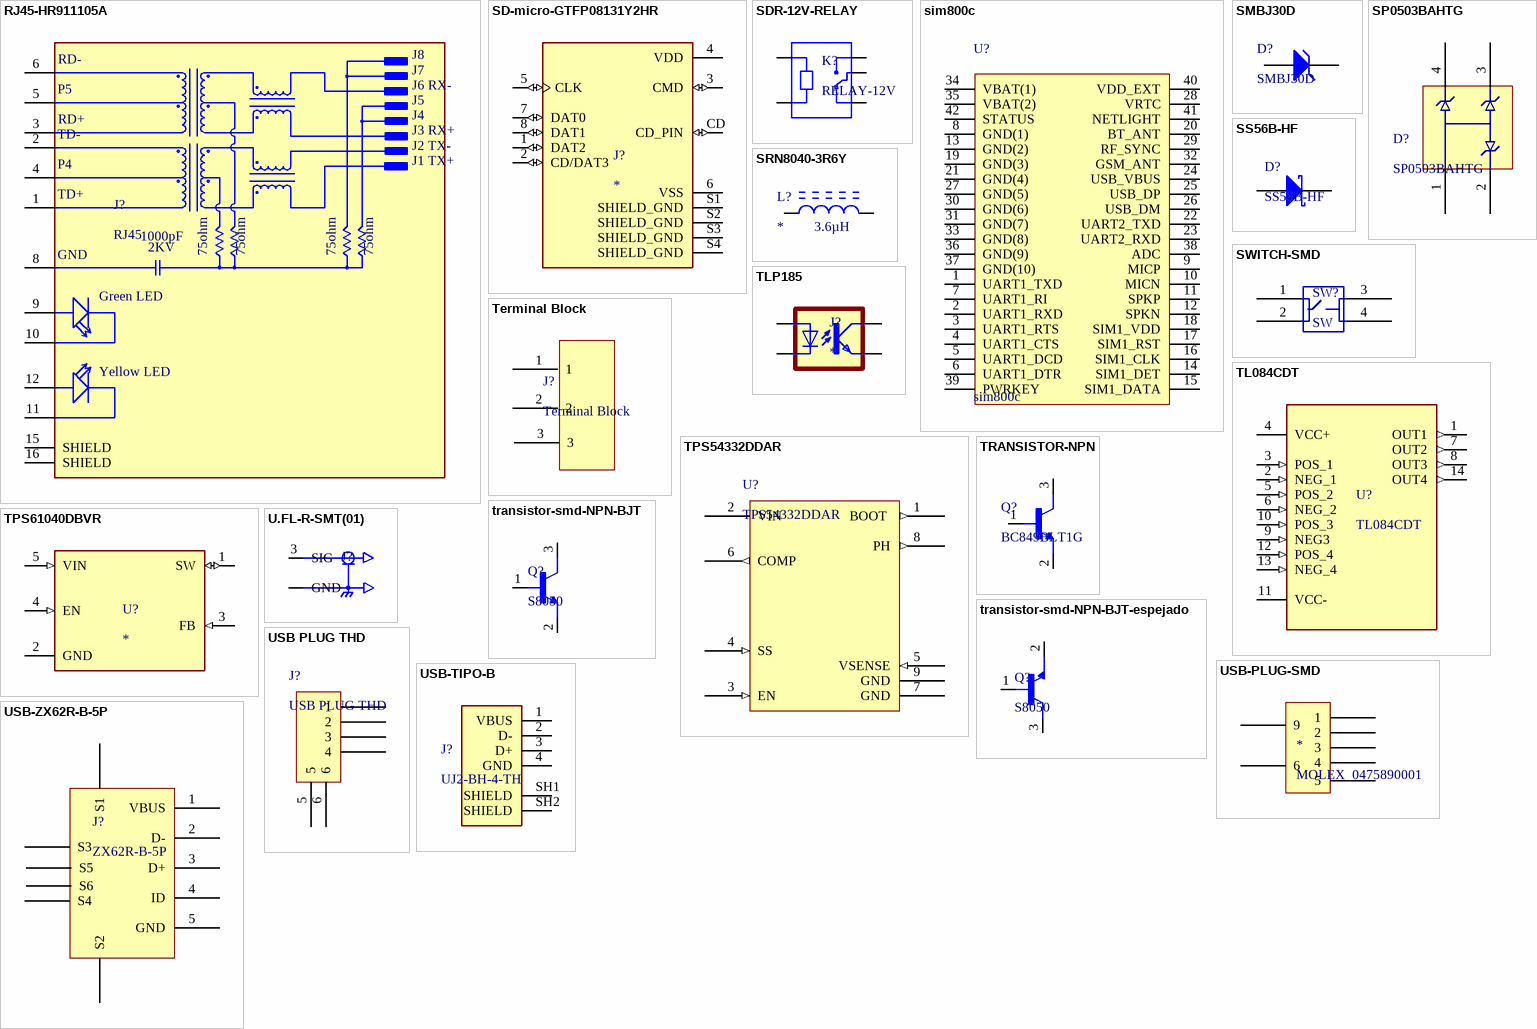
[diagram p2: symbols RJ45-HR911105A to USB-ZX62R-B-5P]

## RJ45-HR911105A
designator J?, comment RJ45
DIP RJ45 Connector;
footprint RJ45-HANRUN_HR911105A
pins: 1 TD+, 2 TD-, 3 RD+, 4 P4, 5 P5, 6 RD-, 8 GND (power), 9 GA, 10 GC, 11 YC, 12 YA, 15 SHIELD, 16 SHIELD
text: J8; J7; J6 RX-; J5; J4; J3 RX+; J2 TX-; J1 TX+; 1000pF; 2KV; 75ohm; Green LED; Yellow LED

## SD-micro-GTFP08131Y2HR
designator J?
GTFP08131Y2HR  MICRO SD,P/P,LCP; MF: Amphenol Commercial Products; MF: GTFP08131Y2HR
footprint AMPHENOL_GTFP08131Y2HR
pins: 1 DAT2 (io), 2 CD/DAT3 (io), 3 CMD (io), 4 VDD (power), 5 CLK (io), 6 VSS (power), 7 DAT0 (io), 8 DAT1 (io), CD CD_PIN (io), S1 SHIELD_GND (power), S2 SHIELD_GND (power), S3 SHIELD_GND (power), S4 SHIELD_GND (power)

## SDR-12V-RELAY
designator K?, comment RELAY-12V
12V-RELAY-SDR
footprint RELAY_SRD-05/12V-VDC-SL-C
pins: A1, A2, COM, NC, NO

## sim800c
designator U?
Quad-band GSM/GPRS wireless module; Manufacturer_Name: SIMCOM; Geometry.Height: mm; Supplier_Name: RS; RS Part Number: *; Manufacturer_Part_Number: sim800c; Allied_Number: *; Other Part Number: *; Datasheet Link: http://www.sabreadv.com/wp-content/uploads/SIM800C_Hardware_Design_V1.00.pdf; 3D Package: *
footprint SIM800C
pins: 1 UART1_TXD, 2 UART1_RXD, 3 UART1_RTS, 4 UART1_CTS, 5 UART1_DCD, 6 UART1_DTR, 7 UART1_RI, 8 GND(1), 9 MICP, 10 MICN, 11 SPKP, 12 SPKN, 13 GND(2), 14 SIM1_DET, 15 SIM1_DATA, 16 SIM1_CLK, 17 SIM1_RST, 18 SIM1_VDD, 19 GND(3), 20 BT_ANT, 21 GND(4), 22 UART2_TXD, 23 UART2_RXD, 24 USB_VBUS, 25 USB_DP, 26 USB_DM, 27 GND(5), 28 VRTC, 29 RF_SYNC, 30 GND(6), 31 GND(7), 32 GSM_ANT, 33 GND(8), 34 VBAT(1), 35 VBAT(2), 36 GND(9), 37 GND(10), 38 ADC, 39 PWRKEY, 40 VDD_EXT, 41 NETLIGHT, 42 STATUS

## SMBJ30D
designator D?
Transient Voltage Suppressor, 600 W, 30 V, -55 to 150 degC, 2-Pin SMD, RoHS, Tape and Reel
footprint DO-214AB, SMC (Diodo Zener)
pins: 1, 2

## SP0503BAHTG
designator D?
Supresor ESD TVS Uni-Dir 5.5V 4-Pin SOT-143 T/R
footprint SOT143
pins: 1, 2, 3, 4

## SRN8040-3R6Y
designator L?  Inductance: 3.6µH
Manufacturer_Part_Number: SRN8040-3R6Y; Vendor: Bourns Electronics
footprint IND_BOURNS_SRN80
pins: 1, 2

## SS56B-HF
designator D?
Diodo Schottky 60 V 5A Montaje en superficie DO-214AA (SMB); part number: SS56B-HF; value: Diodo Schottky 60 V 5A; pakage: DO-214AA (SMB)
footprint SS56B-HF DO-214AA (SMB) (Diodo Schottky 60 V 5A Montaje en superficie DO-214AA (SMB))
pins: 1, 2

## SWITCH-SMD
designator SW?, comment SW
SWITCH-SMD
footprint SW_2-1437565-7
pins: 1, 2, 3, 4

## Terminal Block
designator J?
3 Position Terminal Block Header, Male Pins, Shrouded (2 Side) 0.197" (5.00mm) 90°, Right Angle - Through Hole
footprint Terminal Block -691312710003 (3 Position Terminal Block Header, Male Pins, Shrouded (2 Side) 0.197" (5.00mm) 90°, Right Angle - Through Hole)
pins: 1, 2, 3

## TL084CDT
designator U?
General purpose JFET quad operational amplifiers; MP: TL084CDT
footprint SOIC127P600X175-14N
pins: 1 OUT1 (out), 2 NEG_1 (in), 3 POS_1 (in), 4 VCC+ (power), 5 POS_2 (in), 6 NEG_2 (in), 7 OUT2 (out), 8 OUT3 (out), 9 NEG3 (in), 10 POS_3 (in), 11 VCC- (power), 12 POS_4 (in), 13 NEG_4 (in), 14 OUT4 (out)

## TLP185
designator J?
Optoisolator Transistor Output 3750Vrms 1 Channel 6-SOP; MP: TLP185; MF: Toshiba; Price: None; Availability: In Stock; Package: None; SnapEDA_Link: https://www.snapeda.com/parts/TLP185/Toshiba/view-part/?ref=snap; Check_prices: https://www.snapeda.com/parts/TLP185/Toshiba/view-part/?ref=eda; Value: *; Purchase-URL: https://pricing.snapeda.com/search/part/TLP185/?ref=eda
footprint SOP-4-2.54MM
pins: ANODE A, CATHODE C, COLLECTOR COL, EMITTER EMIT

## TPS54332DDAR
designator U?
IC REG BUCK ADJ 3.5A 8SOPWRPAD
footprint SOIC-8 PowerPad (Low density)
pins: 1 BOOT  (out), 2 VIN (power), 3 EN (in), 4 SS (in), 5 VSENSE (in), 6 COMP (out), 7 GND (power), 8 PH (out), 9 GND (power)

## TPS61040DBVR
designator U?
28-V, 400-mA Switch Boost Converter in SOT-23 for LCD and White LED Applications
footprint SOT95P280X145-5N
pins: 1 SW (io), 2 GND (power), 3 FB (in), 4 EN (in), 5 VIN (in)

## TRANSISTOR-NPN
designator Q?, comment BC849BLT1G
Transistor bipolar (BJT) NPN 30 V 100 mA 100 MHz 300 mW Montaje en superficie SOT-23-3 (TO-236)
footprint SOT-23-3 (TO-236) (Transistor bipolar (BJT) NPN 30 V 100 mA 100 MHz 300 mW Montaje en superficie SOT-23-3 (TO-236))
pins: 1 B, 2 E, 3 C

## transistor-smd-NPN-BJT
designator Q?, comment S8050
Transistor bipolar (BJT) NPN 25 V 500 mA 150 MHz 300 mW Montaje en superficie SOT-23
footprint SOT-23
pins: 1 B, 2 E, 3 C

## transistor-smd-NPN-BJT-espejado
designator Q?, comment S8050
Transistor bipolar (BJT) NPN 25 V 500 mA 150 MHz 300 mW Montaje en superficie SOT-23
footprint SOT-23
pins: 1 B, 2 E, 3

## U.FL-R-SMT(01)
designator J?, comment UFL  (value not drawn)
U.FL (UMCC) Connector Receptacle, Male Pin 50Ohm Surface Mount Solder. RF Connectors / Coaxial Connectors; MP: U.FL-R-SMT(01); MF: Hirose; Check_prices: https://www.snapeda.com/parts/U.FL-R-SMT(01)/Hirose+Electric+Co+Ltd/view-part/?ref=eda; Value: *; Availability: In Stock; Price: None; Package: None; SnapEDA_Link: https://www.snapeda.com/parts/U.FL-R-SMT(01)/Hirose+Electric+Co+Ltd/view-part/?ref=snap; Purchase-URL: https://pricing.snapeda.com/search/part/U.FL-R-SMT(01)/?ref=eda
pins: 1 GND, 2 GND, 3 SIG

## USB PLUG THD
designator J?
Usb connector - A Type Plug R/A Connector (DIP)
footprint USB_CNN_A (Usb connector - A Type Plug R/A Connector (DIP))
pins: 1, 2, 3, 4, 5, 6

## USB-PLUG-SMD
designator *, comment MOLEX_0475890001
footprint MOLEX_0475890001
pins: 1, 2, 3, 4, 5, 6, 9

## USB-TIPO-B
designator J?, comment UJ2-BH-4-TH
Tipo B, USB 2.0, 1 A, ángulo recto, orificio pasante, receptáculo USB
footprint USB-TIPO-B (Tipo B, USB 2.0, 1 A, ángulo recto, orificio pasante, receptáculo USB)
pins: 1 VBUS, 2 D-, 3 D+, 4 GND, SH1 SHIELD, SH2 SHIELD

## USB-ZX62R-B-5P
designator J?, comment ZX62R-B-5P
ZX62R-B-5P USB STM; tecnoligi: SMD; value: ZX62R-B-5P
footprint HRS_ZX62R-B-5P
pins: 1 VBUS, 2 D-, 3 D+, 4 ID, 5 GND, 12 S1, 13 S3, 14 S5, 15 S6, 16 S2, 17 S4